# Altium footprint library WL-SUMW.PcbLib: 3 footprints
Each footprint in its own frame and in the unit in brackets; x right, y up, seen from the top. Pads: shape width x height; smd on the part's side, far side on the other; paste and mask are expansions set on the pad; w line width, h text height; cw(c..) or ccw(c..) is an arc to the next point about the centre after c.
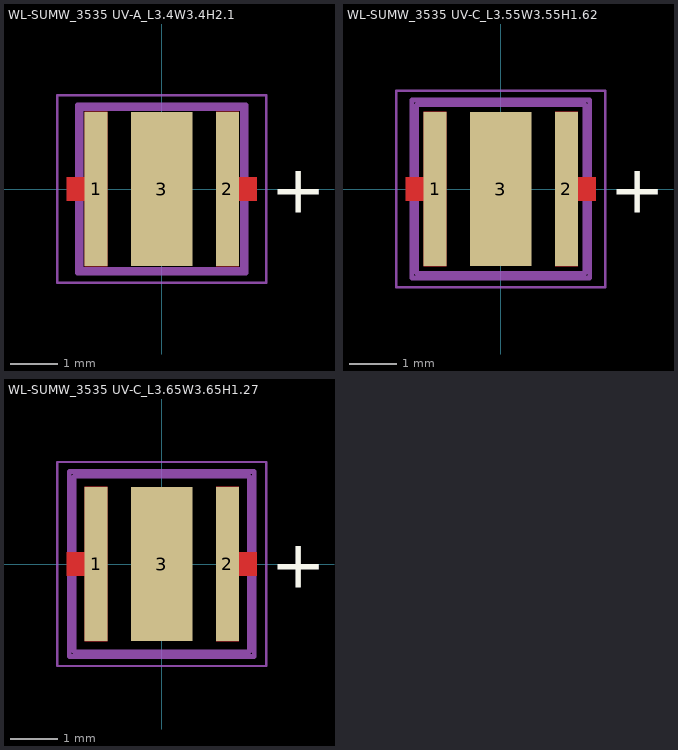
[diagram p0: the footprints below, top view; thin cyan lines are the x and y axes]

## WL-SUMW_3535 UV-A_L3.4W3.4H2.1 [mm] "SMD Ultraviolet Ceramic Waterclear, body 3.40x3.40mm"
height 2.1
pads (3):
  rect 0.48x3.25 smd: 1(-1.385,0) 2(1.385,0)
  rect 1.3x3.25 smd: 3(0,0)
Top Layer:
  region: -2,-0.25 -2,0.25 -1.625,0.25 -1.625,1.625 -1.145,1.625 -1.145,-1.625 -1.625,-1.625 -1.625,-0.25
  region: 2,-0.25 2,0.25 1.625,0.25 1.625,1.625 1.145,1.625 1.145,-1.625 1.625,-1.625 1.625,-0.25
Top Overlay:
  text "+" at 2.3,-0.5 h1.02
Top Assembly:
  lines w0.1: -1.775,-1.775 1.775,-1.775 1.775,1.775 -1.775,1.775 -1.775,-1.775
Top Designator:
  text ".Designator" at -3.647,-0.357 h1
Top 3D Body:
  lines w0.1: -1.7,-1.7 1.7,-1.7 1.7,1.7 -1.7,1.7 -1.7,-1.7
Top Courtyard:
  lines w0.05: -2.2,-1.975 2.2,-1.975 2.2,1.975 -2.2,1.975 -2.2,-1.975
Top Component Center:
  lines w0.1: -0.5,0 0.5,0 ; 0,-0.5 0,0.5
3D body "153353xxAA350.stp": height 2.1, standoff 0, extent -1.7,-1.7 1.7,1.7

## WL-SUMW_3535 UV-C_L3.55W3.55H1.62 [mm] "SMD Ultraviolet Ceramic Waterclear, body 3.55x3.55mm"
height 1.62
pads (3):
  rect 0.48x3.25 smd: 1(-1.385,0) 2(1.385,0)
  rect 1.3x3.25 smd: 3(0,0)
Top Layer:
  region: -2,-0.25 -2,0.25 -1.625,0.25 -1.625,1.625 -1.145,1.625 -1.145,-1.625 -1.625,-1.625 -1.625,-0.25
  region: 2,-0.25 2,0.25 1.625,0.25 1.625,1.625 1.145,1.625 1.145,-1.625 1.625,-1.625 1.625,-0.25
Top Overlay:
  text "+" at 2.3,-0.5 h1.02
Top Assembly:
  lines w0.1: -1.875,-1.875 1.875,-1.875 1.875,1.875 -1.875,1.875 -1.875,-1.875
Top Designator:
  text ".Designator" at -3.647,-0.357 h1
Top 3D Body:
  lines w0.1: -1.775,-1.775 1.775,-1.775 1.775,1.775 1.775,1.775 -1.775,1.775 -1.775,-1.775
Top Courtyard:
  lines w0.05: -2.201,-2.075 2.201,-2.075 2.201,2.074 2.2,2.075 -2.2,2.075 -2.201,2.074 -2.201,-2.075
Top Component Center:
  lines w0.1: -0.5,0 0.5,0 ; 0,-0.5 0,0.5
3D body "153353xxBA25x.stp": height 1.62, standoff 0, extent -1.775,-1.775 1.775,1.775

## WL-SUMW_3535 UV-C_L3.65W3.65H1.27 [mm] "SMT Ultraviolet Ceramic Waterclear, body 3.65x3.65mm"
height 1.27
pads (3):
  rect 0.48x3.25 smd: 1(-1.385,0) 2(1.385,0)
  rect 1.3x3.25 smd: 3(0,0)
Top Layer:
  region: -2,-0.25 -2,0.25 -1.625,0.25 -1.625,1.625 -1.145,1.625 -1.145,-1.625 -1.625,-1.625 -1.625,-0.25
  region: 2,-0.25 2,0.25 1.625,0.25 1.625,1.625 1.145,1.625 1.145,-1.625 1.625,-1.625 1.625,-0.25
Top Overlay:
  text "+" at 2.3,-0.5 h1.02
Top Assembly:
  lines w0.1: -1.95,-1.95 1.95,-1.95 1.95,1.95 -1.95,1.95 -1.95,-1.95
Top Designator:
  text ".Designator" at -3.647,-0.357 h1
Top 3D Body:
  lines w0.1: -1.85,-1.85 -1.85,1.85 1.85,1.85 1.85,-1.85 -1.85,-1.85
Top Courtyard:
  lines w0.05: -2.2,-2.15 2.2,-2.15 2.2,2.15 -2.2,2.15 -2.2,-2.15
Top Component Center:
  lines w0.1: -0.5,0 0.5,0 ; 0,-0.5 0,0.5
3D body "15335327CA452.stp": height 1.8, standoff 0, extent -1.85,-1.85 1.85,1.85